# Altium schematic symbol library Headers.SchLib: 1 symbol
Pins are listed as number, name and electrical type; pins without a type are passive.

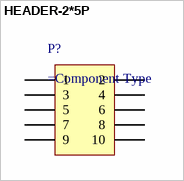
[diagram p0: symbol HEADER-2*5P]

## HEADER-2*5P
designator P?
pins: 1, 2, 3, 4, 5, 6, 7, 8, 9, 10